# Altium integrated library Xilinx Aerospace and Defense.IntLib: 197 symbols (part 35 of 56)
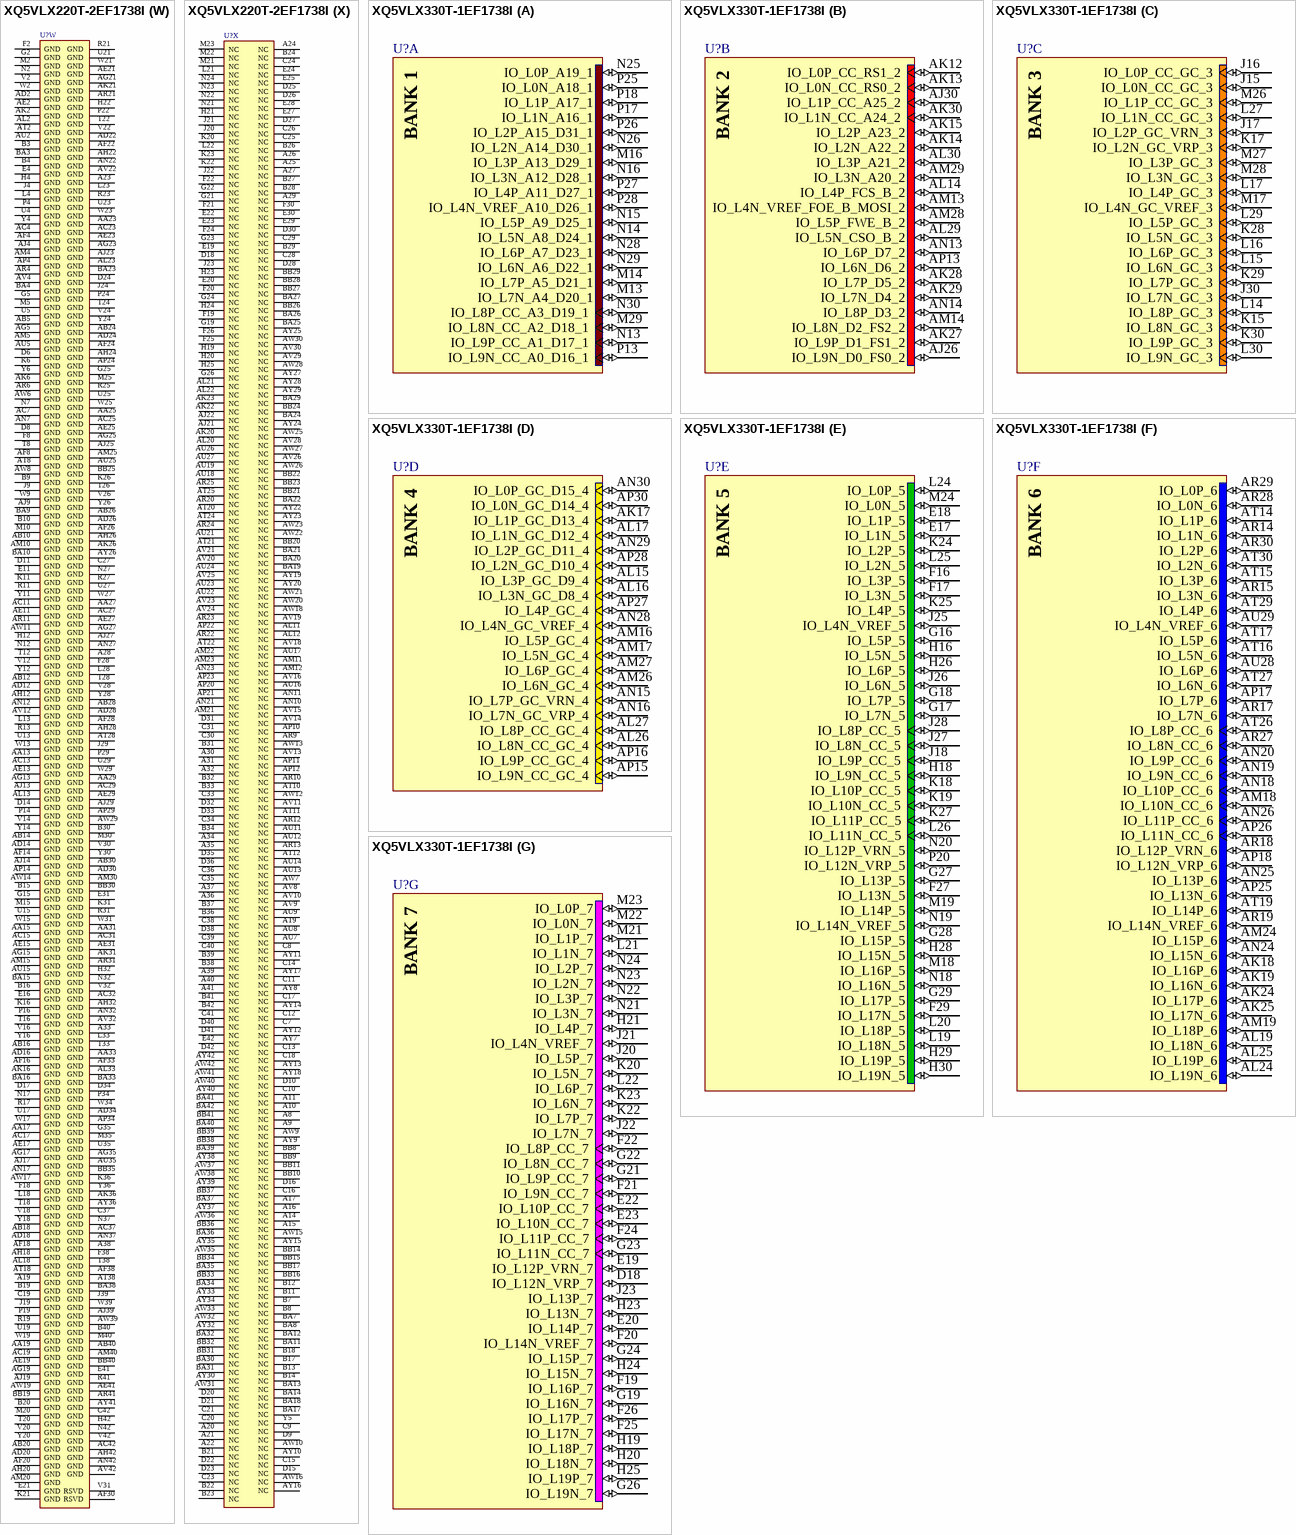
[diagram p344: symbols XQ5VLX220T-2EF1738I to XQ5VLX330T-1EF1738I]

## XQ5VLX220T-2EF1738I
designator U?
Virtex-5Q LXT Platform FPGA, 680 User I/Os, 1738-Ball EFBGA, Speed Grade 2, Industrial Grade; ComponentAvailability: Confirm availability with manufacturer.; Note: Do not connect a single-ended clock to the N-side of clock capable pins (CC & GC pins).; Published: 17-Nov-2009; LatestRevisionDate: 01-Mar-2010; LatestRevisionNote: Updated to datasheet version 1.1 Dec-2009.; DatasheetVersion: ver1.1, Dec-2009; PackageVersion: ver1.0, May-2009; PackageReference: EF1738; Publisher: Altium Limited; PackageDescription: 1738-Ball Flip Chip Ball Grid Array (EF1738); Code_JEDEC: MS-034-AAV-1 (Depopulated); ComponentLink1Description: Virtex-5Q Datasheet; ComponentLink1URL: http://www.xilinx.com/support/documentation/data_sheets/ds174.pdf; ComponentLink2Description: Pinout Specification; ComponentLink2URL: http://direct.xilinx.com/bvdocs/userguides/ug195.pdf; ComponentLink3Description: EF1738 Package Drawing; ComponentLink3URL: http://www.xilinx.com/support/documentation/package_specs/ef1738.pdf; ComponentLink4Description: Virtex-5Q Documents; ComponentLink4URL: http://www.xilinx.com/support/documentation/virtex-5q.htm; ComponentLink5Description: Xilinx.com Home; ComponentLink5URL: http://www.xilinx.com
footprint EF1738 (BGA, 1738-Leads, Body 42.5x42.5mm, Pitch 1mm)
signal-integrity model XQ5VLX220T_EF1738 (Virtex-5Q)
part A pins: M13 IO_L7N_A4_D20_1 (io), M14 IO_L7P_A5_D21_1 (io), M16 IO_L3P_A13_D29_1 (io), M29 IO_L8N_CC_A2_D18_1 (io), N13 IO_L9P_CC_A1_D17_1 (io), N14 IO_L5N_A8_D24_1 (io), N15 IO_L5P_A9_D25_1 (io), N16 IO_L3N_A12_D28_1 (io), N25 IO_L0P_A19_1 (io), N26 IO_L2N_A14_D30_1 (io), N28 IO_L6P_A7_D23_1 (io), N29 IO_L6N_A6_D22_1 (io), N30 IO_L8P_CC_A3_D19_1 (io), P13 IO_L9N_CC_A0_D16_1 (io), P17 IO_L1N_A16_1 (io), P18 IO_L1P_A17_1 (io), P25 IO_L0N_A18_1 (io), P26 IO_L2P_A15_D31_1 (io), P27 IO_L4P_A11_D27_1 (io), P28 IO_L4N_VREF_A10_D26_1 (io)
part B pins: AJ26 IO_L9N_D0_FS0_2 (io), AJ30 IO_L1P_CC_A25_2 (io), AK12 IO_L0P_CC_RS1_2 (io), AK13 IO_L0N_CC_RS0_2 (io), AK14 IO_L2N_A22_2 (io), AK15 IO_L2P_A23_2 (io), AK27 IO_L9P_D1_FS1_2 (io), AK28 IO_L7P_D5_2 (io), AK29 IO_L7N_D4_2 (io), AK30 IO_L1N_CC_A24_2 (io), AL14 IO_L4P_FCS_B_2 (io), AL29 IO_L5N_CSO_B_2 (io), AL30 IO_L3P_A21_2 (io), AM13 IO_L4N_VREF_FOE_B_MOSI_2 (io), AM14 IO_L8N_D2_FS2_2 (io), AM28 IO_L5P_FWE_B_2 (io), AM29 IO_L3N_A20_2 (io), AN13 IO_L6P_D7_2 (io), AN14 IO_L8P_D3_2 (io), AP13 IO_L6N_D6_2 (io)
part C pins: J15 IO_L0N_CC_GC_3 (io), J16 IO_L0P_CC_GC_3 (io), J17 IO_L2P_GC_VRN_3 (io), J30 IO_L7N_GC_3 (io), K15 IO_L8N_GC_3 (io), K17 IO_L2N_GC_VRP_3 (io), K28 IO_L5N_GC_3 (io), K29 IO_L7P_GC_3 (io), K30 IO_L9P_GC_3 (io), L14 IO_L8P_GC_3 (io), L15 IO_L6N_GC_3 (io), L16 IO_L6P_GC_3 (io), L17 IO_L4P_GC_3 (io), L27 IO_L1N_CC_GC_3 (io), L29 IO_L5P_GC_3 (io), L30 IO_L9N_GC_3 (io), M17 IO_L4N_GC_VREF_3 (io), M26 IO_L1P_CC_GC_3 (io), M27 IO_L3P_GC_3 (io), M28 IO_L3N_GC_3 (io)
part D pins: AK17 IO_L1P_GC_D13_4 (io), AL15 IO_L3P_GC_D9_4 (io), AL16 IO_L3N_GC_D8_4 (io), AL17 IO_L1N_GC_D12_4 (io), AL26 IO_L8N_CC_GC_4 (io), AL27 IO_L8P_CC_GC_4 (io), AM16 IO_L5P_GC_4 (io), AM17 IO_L5N_GC_4 (io), AM26 IO_L6N_GC_4 (io), AM27 IO_L6P_GC_4 (io), AN15 IO_L7P_GC_VRN_4 (io), AN16 IO_L7N_GC_VRP_4 (io), AN28 IO_L4N_GC_VREF_4 (io), AN29 IO_L2P_GC_D11_4 (io), AN30 IO_L0P_GC_D15_4 (io), AP15 IO_L9N_CC_GC_4 (io), AP16 IO_L9P_CC_GC_4 (io), AP27 IO_L4P_GC_4 (io), AP28 IO_L2N_GC_D10_4 (io), AP30 IO_L0N_GC_D14_4 (io)
part E pins: E17 IO_L1N_5 (io), E18 IO_L1P_5 (io), F16 IO_L3P_5 (io), F17 IO_L3N_5 (io), F27 IO_L13N_5 (io), F29 IO_L17N_5 (io), G16 IO_L5P_5 (io), G17 IO_L7N_5 (io), G18 IO_L7P_5 (io), G27 IO_L13P_5 (io), G28 IO_L15P_5 (io), G29 IO_L17P_5 (io), H16 IO_L5N_5 (io), H18 IO_L9N_CC_5 (io), H26 IO_L6P_5 (io), H28 IO_L15N_5 (io), H29 IO_L19P_5 (io), H30 IO_L19N_5 (io), J18 IO_L9P_CC_5 (io), J25 IO_L4N_VREF_5 (io), J26 IO_L6N_5 (io), J27 IO_L8N_CC_5 (io), J28 IO_L8P_CC_5 (io), K18 IO_L10P_CC_5 (io), K19 IO_L10N_CC_5 (io), K24 IO_L2P_5 (io), K25 IO_L4P_5 (io), K27 IO_L11P_CC_5 (io), L19 IO_L18N_5 (io), L20 IO_L18P_5 (io), L24 IO_L0P_5 (io), L25 IO_L2N_5 (io), L26 IO_L11N_CC_5 (io), M18 IO_L16P_5 (io), M19 IO_L14P_5 (io), M24 IO_L0N_5 (io), N18 IO_L16N_5 (io), N19 IO_L14N_VREF_5 (io), N20 IO_L12P_VRN_5 (io), P20 IO_L12N_VRP_5 (io)
part F pins: AK18 IO_L16P_6 (io), AK19 IO_L16N_6 (io), AK24 IO_L17P_6 (io), AK25 IO_L17N_6 (io), AL19 IO_L18N_6 (io), AL24 IO_L19N_6 (io), AL25 IO_L19P_6 (io), AM18 IO_L10N_CC_6 (io), AM19 IO_L18P_6 (io), AM24 IO_L15P_6 (io), AN18 IO_L10P_CC_6 (io), AN19 IO_L9N_CC_6 (io), AN20 IO_L9P_CC_6 (io), AN24 IO_L15N_6 (io), AN25 IO_L13P_6 (io), AN26 IO_L11P_CC_6 (io), AP17 IO_L7P_6 (io), AP18 IO_L12N_VRP_6 (io), AP25 IO_L13N_6 (io), AP26 IO_L11N_CC_6 (io), AR14 IO_L1N_6 (io), AR15 IO_L3N_6 (io), AR17 IO_L7N_6 (io), AR18 IO_L12P_VRN_6 (io), AR19 IO_L14N_VREF_6 (io), AR27 IO_L8N_CC_6 (io), AR28 IO_L0N_6 (io), AR29 IO_L0P_6 (io), AR30 IO_L2P_6 (io), AT14 IO_L1P_6 (io), AT15 IO_L3P_6 (io), AT16 IO_L5N_6 (io), AT17 IO_L5P_6 (io), AT19 IO_L14P_6 (io), AT26 IO_L8P_CC_6 (io), AT27 IO_L6N_6 (io), AT29 IO_L4P_6 (io), AT30 IO_L2N_6 (io), AU28 IO_L6P_6 (io), AU29 IO_L4N_VREF_6 (io)
part G pins: AA37 IO_L11N_CC_SM14N_11 (io), AA39 IO_L9N_CC_11 (io), AA40 IO_L9P_CC_11 (io), AA41 IO_L19N_SM9N_11 (io), AA42 IO_L19P_SM9P_11 (io), F41 IO_L1P_11 (io), F42 IO_L0P_11 (io), G41 IO_L1N_11 (io), G42 IO_L0N_11 (io), H41 IO_L2P_11 (io), J41 IO_L2N_11 (io), J42 IO_L3P_11 (io), K42 IO_L3N_11 (io), L40 IO_L4P_11 (io), L41 IO_L4N_VREF_11 (io), L42 IO_L5P_11 (io), M41 IO_L5N_11 (io), M42 IO_L6P_11 (io), N40 IO_L7P_11 (io), N41 IO_L6N_11 (io), P40 IO_L7N_11 (io), P41 IO_L13P_11 (io), P42 IO_L12N_VRP_11 (io), R40 IO_L13N_11 (io), R42 IO_L12P_VRN_11 (io), T40 IO_L14P_11 (io), T41 IO_L14N_VREF_11 (io), T42 IO_L15P_SM13P_11 (io), U41 IO_L15N_SM13N_11 (io), U42 IO_L16P_SM12P_11 (io), V40 IO_L17P_SM11P_11 (io), V41 IO_L16N_SM12N_11 (io), W40 IO_L8P_CC_11 (io), W41 IO_L17N_SM11N_11 (io), W42 IO_L18P_SM10P_11 (io), Y37 IO_L11P_CC_SM14P_11 (io), Y38 IO_L10N_CC_SM15N_11 (io), Y39 IO_L10P_CC_SM15P_11 (io), Y40 IO_L8N_CC_11 (io), Y42 IO_L18N_SM10N_11 (io)
part H pins: AA6 IO_L0N_12 (io), AA7 IO_L0P_12 (io), AA9 IO_L17P_12 (io), AA10 IO_L16N_12 (io), AA11 IO_L16P_12 (io), G6 IO_L1P_12 (io), H5 IO_L1N_12 (io), H6 IO_L3P_12 (io), J5 IO_L3N_12 (io), J6 IO_L5P_12 (io), K4 IO_L7P_12 (io), K5 IO_L5N_12 (io), L5 IO_L7N_12 (io), L6 IO_L9P_CC_12 (io), M6 IO_L9N_CC_12 (io), N5 IO_L10P_CC_12 (io), N6 IO_L10N_CC_12 (io), P5 IO_L12P_VRN_12 (io), P6 IO_L12N_VRP_12 (io), R4 IO_L14P_12 (io), R5 IO_L14N_VREF_12 (io), T4 IO_L15N_12 (io), T5 IO_L15P_12 (io), T6 IO_L13N_12 (io), T7 IO_L13P_12 (io), U6 IO_L11N_CC_12 (io), U7 IO_L11P_CC_12 (io), V5 IO_L8P_CC_12 (io), V6 IO_L8N_CC_12 (io), V8 IO_L6N_12 (io), W5 IO_L2P_12 (io), W6 IO_L2N_12 (io), W7 IO_L4N_VREF_12 (io), W8 IO_L6P_12 (io), W10 IO_L18N_12 (io), W11 IO_L18P_12 (io), Y7 IO_L4P_12 (io), Y8 IO_L19N_12 (io), Y9 IO_L19P_12 (io), Y10 IO_L17N_12 (io)
part I pins: AB37 IO_L8P_CC_SM1P_13 (io), AB38 IO_L8N_CC_SM1N_13 (io), AB39 IO_L9P_CC_SM0P_13 (io), AB41 IO_L0P_SM8P_13 (io), AB42 IO_L0N_SM8N_13 (io), AC38 IO_L9N_CC_SM0N_13 (io), AC39 IO_L11N_CC_13 (io), AC40 IO_L11P_CC_13 (io), AC41 IO_L1P_SM7P_13 (io), AD40 IO_L10N_CC_13 (io), AD41 IO_L2N_SM6N_13 (io), AD42 IO_L1N_SM7N_13 (io), AE40 IO_L10P_CC_13 (io), AE42 IO_L2P_SM6P_13 (io), AF40 IO_L4P_13 (io), AF41 IO_L3P_SM5P_13 (io), AF42 IO_L3N_SM5N_13 (io), AG41 IO_L4N_VREF_13 (io), AG42 IO_L5P_SM4P_13 (io), AH40 IO_L7P_SM2P_13 (io), AH41 IO_L5N_SM4N_13 (io), AJ40 IO_L7N_SM2N_13 (io), AJ41 IO_L6N_SM3N_13 (io), AJ42 IO_L6P_SM3P_13 (io), AK40 IO_L12P_VRN_13 (io), AK42 IO_L13N_13 (io), AL40 IO_L12N_VRP_13 (io), AL41 IO_L13P_13 (io), AL42 IO_L14P_13 (io), AM41 IO_L15P_13 (io), AM42 IO_L14N_VREF_13 (io), AN41 IO_L15N_13 (io), AP41 IO_L16N_13 (io), AP42 IO_L16P_13 (io), AR42 IO_L17P_13 (io), AT41 IO_L18P_13 (io), AT42 IO_L17N_13 (io), AU41 IO_L18N_13 (io), AU42 IO_L19P_13 (io), AV41 IO_L19N_13 (io)
part J pins: AA34 IO_L17P_15 (io), AA35 IO_L16P_15 (io), AA36 IO_L16N_15 (io), E39 IO_L3P_15 (io), E40 IO_L3N_15 (io), F39 IO_L2P_15 (io), F40 IO_L2N_15 (io), G38 IO_L1P_15 (io), G39 IO_L1N_15 (io), H38 IO_L0P_15 (io), H39 IO_L0N_15 (io), H40 IO_L10P_CC_15 (io), J38 IO_L9N_CC_15 (io), J40 IO_L10N_CC_15 (io), K38 IO_L9P_CC_15 (io), K39 IO_L11N_CC_15 (io), K40 IO_L11P_CC_15 (io), L39 IO_L8N_CC_15 (io), M38 IO_L8P_CC_15 (io), M39 IO_L7N_15 (io), N38 IO_L6N_15 (io), N39 IO_L7P_15 (io), P37 IO_L5N_15 (io), P38 IO_L6P_15 (io), R37 IO_L5P_15 (io), R38 IO_L4N_VREF_15 (io), R39 IO_L4P_15 (io), T37 IO_L13P_15 (io), T39 IO_L14P_15 (io), U37 IO_L12N_VRP_15 (io), U38 IO_L13N_15 (io), U39 IO_L14N_VREF_15 (io), V38 IO_L12P_VRN_15 (io), V39 IO_L15P_15 (io), W35 IO_L18N_15 (io), W36 IO_L19P_15 (io), W37 IO_L19N_15 (io), W38 IO_L15N_15 (io), Y34 IO_L17N_15 (io), Y35 IO_L18P_15 (io)
part K pins: AB34 IO_L0P_17 (io), AB36 IO_L1N_17 (io), AC34 IO_L0N_17 (io), AC35 IO_L1P_17 (io), AC36 IO_L2P_17 (io), AD35 IO_L2N_17 (io), AD36 IO_L3P_17 (io), AD37 IO_L3N_17 (io), AD38 IO_L4N_VREF_17 (io), AE37 IO_L4P_17 (io), AE38 IO_L5N_17 (io), AE39 IO_L5P_17 (io), AF37 IO_L7N_17 (io), AF39 IO_L6P_17 (io), AG37 IO_L7P_17 (io), AG38 IO_L6N_17 (io), AG39 IO_L12P_VRN_17 (io), AH38 IO_L15N_17 (io), AH39 IO_L12N_VRP_17 (io), AJ37 IO_L15P_17 (io), AJ38 IO_L13P_17 (io), AK37 IO_L14N_VREF_17 (io), AK38 IO_L14P_17 (io), AK39 IO_L13N_17 (io), AL37 IO_L19N_17 (io), AL39 IO_L16P_17 (io), AM37 IO_L19P_17 (io), AM38 IO_L18N_17 (io), AM39 IO_L16N_17 (io), AN38 IO_L18P_17 (io), AN39 IO_L17P_17 (io), AN40 IO_L8P_CC_17 (io), AP38 IO_L17N_17 (io), AP40 IO_L8N_CC_17 (io), AR39 IO_L11N_CC_17 (io), AR40 IO_L9P_CC_17 (io), AT39 IO_L11P_CC_17 (io), AT40 IO_L9N_CC_17 (io), AU39 IO_L10N_CC_17 (io), AV40 IO_L10P_CC_17 (io)
part L pins: AB6 IO_L9N_CC_18 (io), AB7 IO_L9P_CC_18 (io), AB8 IO_L3N_18 (io), AB9 IO_L3P_18 (io), AB11 IO_L1P_18 (io), AC5 IO_L10P_CC_18 (io), AC6 IO_L10N_CC_18 (io), AC8 IO_L5P_18 (io), AC9 IO_L5N_18 (io), AC10 IO_L1N_18 (io), AD5 IO_L14N_VREF_18 (io), AD6 IO_L12P_VRN_18 (io), AD7 IO_L12N_VRP_18 (io), AD8 IO_L16P_18 (io), AD10 IO_L7P_18 (io), AD11 IO_L7N_18 (io), AE5 IO_L14P_18 (io), AE7 IO_L15N_18 (io), AE8 IO_L16N_18 (io), AE9 IO_L18P_18 (io), AE10 IO_L18N_18 (io), AF5 IO_L11P_CC_18 (io), AF6 IO_L11N_CC_18 (io), AF7 IO_L15P_18 (io), AF9 IO_L17P_18 (io), AF10 IO_L17N_18 (io), AF11 IO_L19P_18 (io), AF12 IO_L19N_18 (io), AG4 IO_L8P_CC_18 (io), AG6 IO_L13P_18 (io), AG7 IO_L13N_18 (io), AH4 IO_L8N_CC_18 (io), AH5 IO_L6N_18 (io), AH6 IO_L6P_18 (io), AJ5 IO_L4N_VREF_18 (io), AJ6 IO_L4P_18 (io), AJ7 IO_L0P_18 (io), AK5 IO_L2N_18 (io), AK7 IO_L0N_18 (io), AL5 IO_L2P_18 (io)
part M pins: AA32 IO_L19N_19 (io), D37 IO_L15N_19 (io), E37 IO_L14N_VREF_19 (io), E38 IO_L15P_19 (io), F36 IO_L13P_19 (io), F37 IO_L14P_19 (io), G36 IO_L13N_19 (io), G37 IO_L12N_VRP_19 (io), H35 IO_L6P_19 (io), H36 IO_L12P_VRN_19 (io), J35 IO_L5N_19 (io), J36 IO_L6N_19 (io), J37 IO_L7N_19 (io), K35 IO_L5P_19 (io), K37 IO_L7P_19 (io), L35 IO_L4N_VREF_19 (io), L36 IO_L4P_19 (io), L37 IO_L2P_19 (io), M36 IO_L1N_19 (io), M37 IO_L2N_19 (io), N35 IO_L1P_19 (io), N36 IO_L3P_19 (io), P35 IO_L0N_19 (io), P36 IO_L3N_19 (io), R34 IO_L0P_19 (io), R35 IO_L10P_CC_19 (io), T34 IO_L9P_CC_19 (io), T35 IO_L8N_CC_19 (io), T36 IO_L10N_CC_19 (io), U33 IO_L9N_CC_19 (io), U34 IO_L8P_CC_19 (io), U36 IO_L11P_CC_19 (io), V33 IO_L17P_19 (io), V34 IO_L16N_19 (io), V35 IO_L16P_19 (io), V36 IO_L11N_CC_19 (io), W32 IO_L18N_19 (io), W33 IO_L17N_19 (io), Y32 IO_L19P_19 (io), Y33 IO_L18P_19 (io)
part N pins: D7 IO_L3P_20 (io), E5 IO_L7P_20 (io), E7 IO_L3N_20 (io), E8 IO_L1N_20 (io), E9 IO_L1P_20 (io), F5 IO_L7N_20 (io), F6 IO_L5N_20 (io), F7 IO_L5P_20 (io), F9 IO_L9P_CC_20 (io), G7 IO_L10P_CC_20 (io), G8 IO_L10N_CC_20 (io), G9 IO_L9N_CC_20 (io), H8 IO_L12P_VRN_20 (io), H9 IO_L12N_VRP_20 (io), J7 IO_L14N_VREF_20 (io), J8 IO_L14P_20 (io), K7 IO_L17P_20 (io), K8 IO_L16P_20 (io), K9 IO_L16N_20 (io), L7 IO_L17N_20 (io), L9 IO_L19N_20 (io), M7 IO_L18P_20 (io), M8 IO_L18N_20 (io), M9 IO_L19P_20 (io), N8 IO_L0N_20 (io), N9 IO_L0P_20 (io), P7 IO_L2P_20 (io), P8 IO_L2N_20 (io), R7 IO_L4P_20 (io), R8 IO_L4N_VREF_20 (io), R9 IO_L6P_20 (io), T9 IO_L6N_20 (io), T10 IO_L13P_20 (io), T11 IO_L13N_20 (io), U8 IO_L11P_CC_20 (io), U9 IO_L11N_CC_20 (io), U11 IO_L15P_20 (io), V9 IO_L8P_CC_20 (io), V10 IO_L8N_CC_20 (io), V11 IO_L15N_20 (io)
part O pins: AB32 IO_L0N_21 (io), AB33 IO_L0P_21 (io), AC33 IO_L1P_21 (io), AD32 IO_L1N_21 (io), AD33 IO_L2P_21 (io), AE32 IO_L2N_21 (io), AE33 IO_L3P_21 (io), AE34 IO_L3N_21 (io), AE35 IO_L8P_CC_21 (io), AF34 IO_L8N_CC_21 (io), AF35 IO_L9P_CC_21 (io), AF36 IO_L9N_CC_21 (io), AG34 IO_L10N_CC_21 (io), AG36 IO_L11N_CC_21 (io), AH34 IO_L10P_CC_21 (io), AH35 IO_L11P_CC_21 (io), AH36 IO_L16P_21 (io), AJ35 IO_L17P_21 (io), AJ36 IO_L16N_21 (io), AK34 IO_L19N_21 (io), AK35 IO_L17N_21 (io), AL34 IO_L19P_21 (io), AL35 IO_L18N_21 (io), AL36 IO_L18P_21 (io), AM34 IO_L15N_21 (io), AM36 IO_L14P_21 (io), AN34 IO_L15P_21 (io), AN35 IO_L14N_VREF_21 (io), AN36 IO_L13N_21 (io), AP35 IO_L13P_21 (io), AP36 IO_L12N_VRP_21 (io), AP37 IO_L12P_VRN_21 (io), AR37 IO_L7P_21 (io), AR38 IO_L6N_21 (io), AT36 IO_L7N_21 (io), AT37 IO_L6P_21 (io), AU37 IO_L5N_21 (io), AU38 IO_L5P_21 (io), AV38 IO_L4N_VREF_21 (io), AV39 IO_L4P_21 (io)
part P pins: E32 IO_L11P_CC_23 (io), E33 IO_L11N_CC_23 (io), E34 IO_L9P_CC_23 (io), E35 IO_L8N_CC_23 (io), F31 IO_L10P_CC_23 (io), F32 IO_L10N_CC_23 (io), F34 IO_L9N_CC_23 (io), F35 IO_L8P_CC_23 (io), G31 IO_L6N_23 (io), G32 IO_L6P_23 (io), G33 IO_L5P_23 (io), G34 IO_L4N_VREF_23 (io), H31 IO_L7P_23 (io), H33 IO_L5N_23 (io), H34 IO_L4P_23 (io), J31 IO_L7N_23 (io), J32 IO_L14N_VREF_23 (io), J33 IO_L13N_23 (io), K32 IO_L14P_23 (io), K33 IO_L13P_23 (io), K34 IO_L12N_VRP_23 (io), L31 IO_L15N_23 (io), L32 IO_L15P_23 (io), L34 IO_L12P_VRN_23 (io), M31 IO_L2N_23 (io), M32 IO_L2P_23 (io), M33 IO_L1N_23 (io), M34 IO_L1P_23 (io), N31 IO_L3P_23 (io), N33 IO_L0P_23 (io), N34 IO_L0N_23 (io), P31 IO_L3N_23 (io), P32 IO_L16N_23 (io), P33 IO_L16P_23 (io), R32 IO_L17N_23 (io), R33 IO_L17P_23 (io), T31 IO_L19N_23 (io), T32 IO_L18P_23 (io), U31 IO_L19P_23 (io), U32 IO_L18N_23 (io)
part Q pins: D12 IO_L15N_24 (io), D13 IO_L17P_24 (io), E10 IO_L3P_24 (io), E12 IO_L15P_24 (io), E13 IO_L13N_24 (io), E14 IO_L17N_24 (io), E15 IO_L19P_24 (io), F10 IO_L3N_24 (io), F11 IO_L2N_24 (io), F12 IO_L2P_24 (io), F14 IO_L13P_24 (io), F15 IO_L19N_24 (io), G11 IO_L1N_24 (io), G12 IO_L1P_24 (io), G13 IO_L11P_CC_24 (io), G14 IO_L11N_CC_24 (io), H10 IO_L7P_24 (io), H11 IO_L0N_24 (io), H13 IO_L6N_24 (io), H14 IO_L8P_CC_24 (io), H15 IO_L8N_CC_24 (io), J10 IO_L7N_24 (io), J11 IO_L5N_24 (io), J12 IO_L0P_24 (io), J13 IO_L6P_24 (io), K10 IO_L9P_CC_24 (io), K12 IO_L5P_24 (io), K13 IO_L4N_VREF_24 (io), K14 IO_L4P_24 (io), L10 IO_L9N_CC_24 (io), L11 IO_L10N_CC_24 (io), L12 IO_L10P_CC_24 (io), M11 IO_L12P_VRN_24 (io), M12 IO_L12N_VRP_24 (io), N10 IO_L16N_24 (io), N11 IO_L14P_24 (io), P10 IO_L18N_24 (io), P11 IO_L16P_24 (io), P12 IO_L14N_VREF_24 (io), R10 IO_L18P_24 (io)
part R pins: AF31 IO_L0N_25 (io), AF32 IO_L1P_25 (io), AG31 IO_L0P_25 (io), AG32 IO_L2N_25 (io), AG33 IO_L1N_25 (io), AH31 IO_L3P_25 (io), AH33 IO_L2P_25 (io), AJ31 IO_L3N_25 (io), AJ32 IO_L17P_25 (io), AJ33 IO_L16N_25 (io), AK32 IO_L17N_25 (io), AK33 IO_L16P_25 (io), AL31 IO_L19P_25 (io), AL32 IO_L18P_25 (io), AM31 IO_L19N_25 (io), AM32 IO_L18N_25 (io), AM33 IO_L15N_25 (io), AN31 IO_L12N_VRP_25 (io), AN33 IO_L15P_25 (io), AP31 IO_L12P_VRN_25 (io), AP32 IO_L13N_25 (io), AP33 IO_L14N_VREF_25 (io), AR32 IO_L13P_25 (io), AR33 IO_L14P_25 (io), AR34 IO_L7N_25 (io), AR35 IO_L7P_25 (io), AT31 IO_L11N_CC_25 (io), AT32 IO_L11P_CC_25 (io), AT34 IO_L6N_25 (io), AT35 IO_L5N_25 (io), AU31 IO_L10N_CC_25 (io), AU32 IO_L8P_CC_25 (io), AU33 IO_L8N_CC_25 (io), AU34 IO_L6P_25 (io), AU36 IO_L5P_25 (io), AV31 IO_L10P_CC_25 (io), AV33 IO_L9P_CC_25 (io), AV34 IO_L9N_CC_25 (io), AV35 IO_L4P_25 (io), AV36 IO_L4N_VREF_25 (io)
part S pins: AG8 IO_L9P_CC_26 (io), AG9 IO_L3P_26 (io), AG11 IO_L1N_26 (io), AG12 IO_L1P_26 (io), AH8 IO_L9N_CC_26 (io), AH9 IO_L3N_26 (io), AH10 IO_L5P_26 (io), AH11 IO_L5N_26 (io), AJ8 IO_L10N_CC_26 (io), AJ10 IO_L7N_26 (io), AJ11 IO_L7P_26 (io), AK8 IO_L10P_CC_26 (io), AK9 IO_L12P_VRN_26 (io), AK10 IO_L12N_VRP_26 (io), AL6 IO_L16P_26 (io), AL7 IO_L16N_26 (io), AL9 IO_L14P_26 (io), AL10 IO_L14N_VREF_26 (io), AM6 IO_L18N_26 (io), AM7 IO_L19P_26 (io), AM8 IO_L19N_26 (io), AM9 IO_L8P_CC_26 (io), AN4 IO_L17P_26 (io), AN5 IO_L17N_26 (io), AN6 IO_L18P_26 (io), AN8 IO_L11P_CC_26 (io), AN9 IO_L8N_CC_26 (io), AP5 IO_L15N_26 (io), AP6 IO_L15P_26 (io), AP7 IO_L13P_26 (io), AP8 IO_L11N_CC_26 (io), AR5 IO_L2N_26 (io), AR7 IO_L0N_26 (io), AR8 IO_L13N_26 (io), AT5 IO_L4P_26 (io), AT6 IO_L2P_26 (io), AT7 IO_L0P_26 (io), AU6 IO_L4N_VREF_26 (io), AV5 IO_L6N_26 (io), AV6 IO_L6P_26 (io)
part T pins: AA4 FLOAT, AC21 DXN_0, AC22 DXP_0, AG29 TCK_0 (in), AH14 CCLK_0 (io), AH15 TMS_0 (in), AH16 TDI_0 (in), AH29 M0_0 (in), AH30 M1_0 (in), AJ15 TDO_0 (out), AJ16 D_OUT_BUSY_0 (out), AJ28 M2_0 (in), P15 HSWAPEN_0 (in), R14 DONE_0 (io), R15 D_IN_0 (in), R29 PROGRAM_B_0 (in), R30 RDWR_B_0 (in), T14 INIT_B_0 (io), T30 CS_B_0 (in)
part U pins: A2 MGTRXP1_124 (in), A3 MGTRXN1_124 (in), A4 MGTRXN0_124 (in), A5 MGTRXP0_124 (in), AA2 MGTTXP1_112 (out), AB2 MGTTXP0_114 (out), AB4 MGTRREF_112 (in), AC1 MGTRXP0_114 (in), AC2 MGTTXN0_114 (out), AD1 MGTRXN0_114 (in), AD3 MGTREFCLKN_114 (in), AD4 MGTREFCLKP_114 (in), AE1 MGTRXN1_114 (in), AF1 MGTRXP1_114 (in), AF2 MGTTXN1_114 (out), AG2 MGTTXP1_114 (out), AH2 MGTTXP0_118 (out), AJ1 MGTRXP0_118 (in), AJ2 MGTTXN0_118 (out), AK1 MGTRXN0_118 (in), AK3 MGTREFCLKN_118 (in), AK4 MGTREFCLKP_118 (in), AL1 MGTRXN1_118 (in), AM1 MGTRXP1_118 (in), AM2 MGTTXN1_118 (out), AN2 MGTTXP1_118 (out), AP2 MGTTXP0_122 (out), AR1 MGTRXP0_122 (in), AR2 MGTTXN0_122 (out), AT1 MGTRXN0_122 (in), AT3 MGTREFCLKN_122 (in), AT4 MGTREFCLKP_122 (in), AU1 MGTRXN1_122 (in), AV1 MGTRXP1_122 (in), AV2 MGTTXN1_122 (out), AW2 MGTTXP1_122 (out), AW4 MGTREFCLKP_126 (in), AY4 MGTREFCLKN_126 (in), B1 MGTTXP1_124 (out), B2 MGTTXN1_124 (out), B5 MGTTXN0_124 (out), B6 MGTTXP0_124 (out), BA1 MGTTXP0_126 (out), BA2 MGTTXN0_126 (out), BA5 MGTTXN1_126 (out), BA6 MGTTXP1_126 (out), BB2 MGTRXP0_126 (in), BB3 MGTRXN0_126 (in), BB4 MGTRXN1_126 (in), BB5 MGTRXP1_126 (in), C3 MGTREFCLKN_124 (in), C4 MGTREFCLKP_124 (in), D2 MGTTXP0_120 (out), E1 MGTRXP0_120 (in), E2 MGTTXN0_120 (out), F1 MGTRXN0_120 (in), F3 MGTREFCLKN_120 (in), F4 MGTREFCLKP_120 (in), G1 MGTRXN1_120 (in), H1 MGTRXP1_120 (in), H2 MGTTXN1_120 (out), J2 MGTTXP1_120 (out), K2 MGTTXP0_116 (out), L1 MGTRXP0_116 (in), L2 MGTTXN0_116 (out), M1 MGTRXN0_116 (in), M3 MGTREFCLKN_116 (in), M4 MGTREFCLKP_116 (in), N1 MGTRXN1_116 (in), P1 MGTRXP1_116 (in), P2 MGTTXN1_116 (out), R2 MGTTXP1_116 (out), T2 MGTTXP0_112 (out), U1 MGTRXP0_112 (in), U2 MGTTXN0_112 (out), V1 MGTRXN0_112 (in), V3 MGTREFCLKN_112 (in), V4 MGTREFCLKP_112 (in), W1 MGTRXN1_112 (in), Y1 MGTRXP1_112 (in), Y2 MGTTXN1_112 (out)
part V pins: AA3 MGTAVTTTX_112 (power), AA5 MGTAVTTRXC (power), AA8 VCCO_12 (power), AA12 VCCAUX (power), AA14 VCCINT (power), AA16 VCCINT (power), AA18 VCCINT (power), AA20 VCCINT (power), AA21 VREFN_0 (power), AA22 VP_0 (power), AA24 VCCINT (power), AA26 VCCINT (power), AA28 VCCINT (power), AA30 VCCAUX (power), AA38 VCCO_11 (power), AB3 MGTAVTTTX_114 (power), AB13 VCCINT (power), AB15 VCCINT (power), AB17 VCCINT (power), AB19 VCCINT (power), AB21 VN_0 (power), AB22 VREFP_0 (power), AB23 VCCINT (power), AB25 VCCINT (power), AB27 VCCINT (power), AB29 VCCINT (power), AB31 VCCAUX (power), AB35 VCCO_13 (power), AC3 MGTAVTTRX_114 (power), AC12 VCCAUX (power), AC14 VCCINT (power), AC16 VCCINT (power), AC18 VCCINT (power), AC20 VCCINT (power), AC24 VCCINT (power), AC26 VCCINT (power), AC28 VCCINT (power), AC30 VCCAUX (power), AD9 VCCO_18 (power), AD13 VCCINT (power), AD15 VCCINT (power), AD17 VCCINT (power), AD19 VCCINT (power), AD21 VCCINT (power), AD23 VCCINT (power), AD25 VCCINT (power), AD27 VCCINT (power), AD29 VCCINT (power), AD31 VCCAUX (power), AD39 VCCO_13 (power), AE3 MGTAVCC_114 (power), AE4 MGTAVCC_114 (power), AE6 VCCO_18 (power), AE12 VCCAUX (power), AE14 VCCINT (power), AE16 VCCINT (power), AE18 VCCINT (power), AE20 VCCINT (power), AE22 VCCINT (power), AE24 VCCINT (power), AE26 VCCINT (power), AE28 VCCINT (power), AE30 VCCAUX (power), AE36 VCCO_13 (power), AF3 MGTAVCCPLL_114 (power), AF13 VCCAUX (power), AF15 VCCINT (power), AF17 VCCINT (power), AF19 VCCINT (power), AF21 VCCINT (power), AF23 VCCINT (power), AF25 VCCINT (power), AF27 VCCINT (power), AF29 VCCAUX (power), AG3 MGTAVTTTX_114 (power), AG10 VCCO_18 (power), AG14 VCCINT (power), AG16 VCCINT (power), AG18 VCCINT (power), AG20 VCCINT (power), AG22 VCCINT (power), AG24 VCCINT (power), AG26 VCCINT (power), AG28 VCCINT (power), AG30 VCCO_0 (power), AG40 VCCO_17 (power), AH3 MGTAVTTTX_118 (power), AH7 VCCO_26 (power), AH13 VCCAUX (power), AH17 VCCINT (power), AH19 VCCINT (power), AH21 VCCINT (power), AH23 VCCINT (power), AH25 VCCINT (power), AH27 VCCINT (power), AH37 VCCO_17 (power), AJ3 MGTAVTTRX_118 (power), AJ12 VCCAUX (power), AJ18 VCCINT (power), AJ20 VCCINT (power), AJ24 VCCINT (power), AJ34 VCCO_21 (power), AK11 VCCO_26 (power), AK41 VCCO_17 (power), AL3 MGTAVCC_118 (power), AL4 MGTAVCC_118 (power), AL8 VCCO_26 (power), AL28 VCCO_0 (power), AL38 VCCO_21 (power), AM3 MGTAVCCPLL_118 (power), AM35 VCCO_21 (power), AN3 MGTAVTTTX_118 (power), AP3 MGTAVTTTX_122 (power), AP9 VCCO_34 (power), AP19 VCCO_8 (power), AP39 VCCO_25 (power), AR3 MGTAVTTRX_122 (power), AR16 VCCO_4 (power), AR26 VCCO_2 (power), AR36 VCCO_25 (power), AT13 VCCO_4 (power), AT23 VCCO_6 (power), AT33 VCCO_29 (power), AU3 MGTAVCC_122 (power), AU4 MGTAVCC_122 (power), AU10 VCCO_34 (power), AU20 VCCO_8 (power), AU30 VCCO_33 (power), AU40 VCCO_25 (power), AV3 MGTAVCCPLL_122 (power), AV7 VCCO_34 (power), AV17 VCCO_8 (power), AV27 VCCO_2 (power), AV37 VCCO_29 (power), AW3 MGTAVTTTX_122 (power), AW5 MGTAVCC_126 (power), AW24 VCCO_6 (power), AW34 VCCO_29 (power), AY1 MGTAVTTTX_126 (power), AY2 MGTAVTTRX_126 (power), AY3 MGTAVCC_126 (power), AY5 MGTAVCCPLL_126 (power), AY6 MGTAVTTTX_126 (power), AY21 VCCO_6 (power), AY31 VCCO_33 (power), B25 VCCO_5 (power), B35 VCCO_27 (power), BA28 VCCO_33 (power), C1 MGTAVTTTX_124 (power), C2 MGTAVCCPLL_124 (power), C5 MGTAVTTRX_124 (power), C6 MGTAVTTTX_124 (power), C22 VCCO_5 (power), C32 VCCO_31 (power), D3 MGTAVTTTX_120 (power), D4 MGTAVCC_124 (power), D5 MGTAVCC_124 (power), D19 VCCO_7 (power), D29 VCCO_31 (power), D39 VCCO_23 (power), E3 MGTAVTTRX_120 (power), E6 VCCO_24 (power), E26 VCCO_3 (power), E36 VCCO_23 (power), F13 VCCO_1 (power), F23 VCCO_5 (power), F33 VCCO_27 (power), G3 MGTAVCC_120 (power), G4 MGTAVCC_120 (power), G10 VCCO_24 (power), G20 VCCO_7 (power), G30 VCCO_31 (power), G40 VCCO_19 (power), H3 MGTAVCCPLL_120 (power), H7 VCCO_24 (power), H17 VCCO_7 (power), H27 VCCO_3 (power), H37 VCCO_23 (power), J3 MGTAVTTTX_120 (power), J14 VCCO_1 (power), J34 VCCO_27 (power), K3 MGTAVTTTX_116 (power), K41 VCCO_19 (power), L3 MGTAVTTRX_116 (power), L8 VCCO_20 (power), L38 VCCO_19 (power), N3 MGTAVCC_116 (power), N4 MGTAVCC_116 (power), P3 MGTAVCCPLL_116 (power), P9 VCCO_20 (power), P21 VCCINT (power), P23 VCCINT (power), P30 VBATT_0 (power), P39 VCCO_15 (power), R3 MGTAVTTTX_116 (power), R6 VCCO_20 (power), R12 VCCAUX (power), R16 VCCINT (power), R18 VCCINT (power), R20 VCCINT (power), R22 VCCINT (power), R24 VCCINT (power), R26 VCCINT (power), R28 VCCINT (power), R36 VCCO_15 (power), T3 MGTAVTTTX_112 (power), T13 VCCAUX (power), T15 VCCINT (power), T17 VCCINT (power), T19 VCCINT (power), T21 VCCINT (power), T23 VCCINT (power), T25 VCCINT (power), T27 VCCINT (power), T29 VCCAUX (power), U3 MGTAVTTRX_112 (power), U10 VCCO_12 (power), U12 VCCAUX (power), U14 VCCINT (power), U16 VCCINT (power), U18 VCCINT (power), U20 VCCINT (power), U22 VCCINT (power), U24 VCCINT (power), U26 VCCINT (power), U28 VCCINT (power), U30 VCCAUX (power), U40 VCCO_15 (power), V7 VCCO_12 (power), V13 VCCINT (power), V15 VCCINT (power), V17 VCCINT (power), V19 VCCINT (power), V21 VCCINT (power), V23 VCCINT (power), V25 VCCINT (power), V27 VCCINT (power), V29 VCCINT (power), V37 VCCO_11 (power), W3 MGTAVCC_112 (power), W4 MGTAVCC_112 (power), W12 VCCAUX (power), W14 VCCINT (power), W16 VCCINT (power), W18 VCCINT (power), W20 VCCINT (power), W22 VCCINT (power), W24 VCCINT (power), W26 VCCINT (power), W28 VCCINT (power), W30 VCCAUX (power), Y3 MGTAVCCPLL_112 (power), Y13 VCCINT (power), Y15 VCCINT (power), Y17 VCCINT (power), Y19 VCCINT (power), Y21 AVSS_0 (power), Y22 AVDD_0 (power), Y23 VCCINT (power), Y25 VCCINT (power), Y27 VCCINT (power), Y29 VCCINT (power), Y31 VCCAUX (power), Y41 VCCO_11 (power)
part W pins: A19 GND (power), A23 GND (power), A28 GND (power), A33 GND (power), A38 GND (power), AA13 GND (power), AA15 GND (power), AA17 GND (power), AA19 GND (power), AA23 GND (power), AA25 GND (power), AA27 GND (power), AA29 GND (power), AA31 GND (power), AA33 GND (power), AB5 GND (power), AB10 GND (power), AB12 GND (power), AB14 GND (power), AB16 GND (power), AB18 GND (power), AB20 GND (power), AB24 GND (power), AB26 GND (power), AB28 GND (power), AB30 GND (power), AB40 GND (power), AC4 GND (power), AC7 GND (power), AC11 GND (power), AC13 GND (power), AC15 GND (power), AC17 GND (power), AC19 GND (power), AC23 GND (power), AC25 GND (power), AC27 GND (power), AC29 GND (power), AC31 GND (power), AC32 GND (power), AC37 GND (power), AC42 GND (power), AD2 GND (power), AD12 GND (power), AD14 GND (power), AD16 GND (power), AD18 GND (power), AD20 GND (power), AD22 GND (power), AD24 GND (power), AD26 GND (power), AD28 GND (power), AD30 GND (power), AD34 GND (power), AE2 GND (power), AE11 GND (power), AE13 GND (power), AE15 GND (power), AE17 GND (power), AE19 GND (power), AE21 GND (power), AE23 GND (power), AE25 GND (power), AE27 GND (power), AE29 GND (power), AE31 GND (power), AE41 GND (power), AF4 GND (power), AF8 GND (power), AF14 GND (power), AF16 GND (power), AF18 GND (power), AF20 GND (power), AF22 GND (power), AF24 GND (power), AF26 GND (power), AF28 GND (power), AF30 RSVD, AF33 GND (power), AF38 GND (power), AG5 GND (power), AG13 GND (power), AG15 GND (power), AG17 GND (power), AG19 GND (power), AG21 GND (power), AG23 GND (power), AG25 GND (power), AG27 GND (power), AG35 GND (power), AH12 GND (power), AH18 GND (power), AH20 GND (power), AH22 GND (power), AH24 GND (power), AH26 GND (power), AH28 GND (power), AH32 GND (power), AH42 GND (power), AJ4 GND (power), AJ9 GND (power), AJ13 GND (power), AJ14 GND (power), AJ17 GND (power), AJ19 GND (power), AJ23 GND (power), AJ25 GND (power), AJ27 GND (power), AJ29 GND (power), AJ39 GND (power), AK2 GND (power), AK6 GND (power), AK16 GND (power), AK21 GND (power), AK26 GND (power), AK31 GND (power), AK36 GND (power), AL2 GND (power), AL13 GND (power), AL18 GND (power), AL23 GND (power), AL33 GND (power), AM4 GND (power), AM5 GND (power), AM10 GND (power), AM15 GND (power), AM20 GND (power), AM25 GND (power), AM30 GND (power), AM40 GND (power), AN7 GND (power), AN12 GND (power), AN17 GND (power), AN22 GND (power), AN27 GND (power), AN32 GND (power), AN37 GND (power), AN42 GND (power), AP4 GND (power), AP14 GND (power), AP24 GND (power), AP29 GND (power), AP34 GND (power), AR4 GND (power), AR6 GND (power), AR11 GND (power), AR21 GND (power), AR31 GND (power), AR41 GND (power), AT2 GND (power), AT8 GND (power), AT18 GND (power), AT28 GND (power), AT38 GND (power), AU2 GND (power), AU5 GND (power), AU15 GND (power), AU25 GND (power), AU35 GND (power), AV4 GND (power), AV12 GND (power), AV22 GND (power), AV32 GND (power), AV42 GND (power), AW6 GND (power), AW8 GND (power), AW11 GND (power), AW14 GND (power), AW17 GND (power), AW19 GND (power), AW29 GND (power), AW39 GND (power), AY26 GND (power), AY36 GND (power), AY41 GND (power), B3 GND (power), B4 GND (power), B9 GND (power), B10 GND (power), B15 GND (power), B16 GND (power), B19 GND (power), B20 GND (power), B30 GND (power), B40 GND (power), BA3 GND (power), BA4 GND (power), BA9 GND (power), BA10 GND (power), BA15 GND (power), BA16 GND (power), BA23 GND (power), BA33 GND (power), BA38 GND (power), BB19 GND (power), BB25 GND (power), BB30 GND (power), BB35 GND (power), BB40 GND (power), C19 GND (power), C27 GND (power), C37 GND (power), C42 GND (power), D6 GND (power), D8 GND (power), D11 GND (power), D14 GND (power), D17 GND (power), D24 GND (power), D34 GND (power), E4 GND (power), E11 GND (power), E16 GND (power), E21 GND (power), E31 GND (power), E41 GND (power), F2 GND (power), F8 GND (power), F18 GND (power), F28 GND (power), F38 GND (power), G2 GND (power), G5 GND (power), G15 GND (power), G25 GND (power), G35 GND (power), H4 GND (power), H12 GND (power), H22 GND (power), H32 GND (power), H42 GND (power), J4 GND (power), J9 GND (power), J19 GND (power), J24 GND (power), J29 GND (power), J39 GND (power), K6 GND (power), K11 GND (power), K16 GND (power), K21 GND (power), K26 GND (power), K31 GND (power), K36 GND (power), L4 GND (power), L13 GND (power), L18 GND (power), L23 GND (power), L28 GND (power), L33 GND (power), M2 GND (power), M5 GND (power), M10 GND (power), M15 GND (power), M20 GND (power), M25 GND (power), M30 GND (power), M35 GND (power), M40 GND (power), N2 GND (power), N7 GND (power), N12 GND (power), N17 GND (power), N27 GND (power), N32 GND (power), N37 GND (power), N42 GND (power), P4 GND (power), P14 GND (power), P16 GND (power), P19 GND (power), P22 GND (power), P24 GND (power), P29 GND (power), P34 GND (power), R11 GND (power), R13 GND (power), R17 GND (power), R19 GND (power), R21 GND (power), R23 GND (power), R25 GND (power), R27 GND (power), R31 GND (power), R41 GND (power), T8 GND (power), T12 GND (power), T16 GND (power), T18 GND (power), T20 GND (power), T22 GND (power), T24 GND (power), T26 GND (power), T28 GND (power), T33 GND (power), T38 GND (power), U4 GND (power), U5 GND (power), U13 GND (power), U15 GND (power), U17 GND (power), U19 GND (power), U21 GND (power), U23 GND (power), U25 GND (power), U27 GND (power), U29 GND (power), U35 GND (power), V2 GND (power), V12 GND (power), V14 GND (power), V16 GND (power), V18 GND (power), V20 GND (power), V22 GND (power), V24 GND (power), V26 GND (power), V28 GND (power), V30 GND (power), V31 RSVD, V32 GND (power), V42 GND (power), W2 GND (power), W9 GND (power), W13 GND (power), W15 GND (power), W17 GND (power), W19 GND (power), W21 GND (power), W23 GND (power), W25 GND (power), W27 GND (power), W29 GND (power), W31 GND (power), W34 GND (power), W39 GND (power), Y4 GND (power), Y6 GND (power), Y11 GND (power), Y12 GND (power), Y14 GND (power), Y16 GND (power), Y18 GND (power), Y20 GND (power), Y24 GND (power), Y26 GND (power), Y28 GND (power), Y30 GND (power), Y36 GND (power)
part X pins: A8 NC, A9 NC, A10 NC, A11 NC, A14 NC, A15 NC, A16 NC, A17 NC, A20 NC, A21 NC, A22 NC, A24 NC, A25 NC, A26 NC, A27 NC, A29 NC, A30 NC, A31 NC, A32 NC, A34 NC, A35 NC, A36 NC, A37 NC, A39 NC, A40 NC, A41 NC, AJ21 NC, AJ22 NC, AK20 NC, AK22 NC, AK23 NC, AL11 NC, AL12 NC, AL20 NC, AL21 NC, AL22 NC, AM11 NC, AM12 NC, AM21 NC, AM22 NC, AM23 NC, AN10 NC, AN11 NC, AN21 NC, AN23 NC, AP10 NC, AP11 NC, AP12 NC, AP20 NC, AP21 NC, AP22 NC, AP23 NC, AR9 NC, AR10 NC, AR12 NC, AR13 NC, AR20 NC, AR22 NC, AR23 NC, AR24 NC, AR25 NC, AT9 NC, AT10 NC, AT11 NC, AT12 NC, AT20 NC, AT21 NC, AT22 NC, AT24 NC, AT25 NC, AU7 NC, AU8 NC, AU9 NC, AU11 NC, AU12 NC, AU13 NC, AU14 NC, AU16 NC, AU17 NC, AU18 NC, AU19 NC, AU21 NC, AU22 NC, AU23 NC, AU24 NC, AU26 NC, AU27 NC, AV8 NC, AV9 NC, AV10 NC, AV11 NC, AV13 NC, AV14 NC, AV15 NC, AV16 NC, AV18 NC, AV19 NC, AV20 NC, AV21 NC, AV23 NC, AV24 NC, AV25 NC, AV26 NC, AV28 NC, AV29 NC, AV30 NC, AW7 NC, AW9 NC, AW10 NC, AW12 NC, AW13 NC, AW15 NC, AW16 NC, AW18 NC, AW20 NC, AW21 NC, AW22 NC, AW23 NC, AW25 NC, AW26 NC, AW27 NC, AW28 NC, AW30 NC, AW31 NC, AW32 NC, AW33 NC, AW35 NC, AW36 NC, AW37 NC, AW38 NC, AW40 NC, AW41 NC, AW42 NC, AY7 NC, AY8 NC, AY9 NC, AY10 NC, AY11 NC, AY12 NC, AY13 NC, AY14 NC, AY15 NC, AY16 NC, AY17 NC, AY18 NC, AY19 NC, AY20 NC, AY22 NC, AY23 NC, AY24 NC, AY25 NC, AY27 NC, AY28 NC, AY29 NC, AY30 NC, AY32 NC, AY33 NC, AY34 NC, AY35 NC, AY37 NC, AY38 NC, AY39 NC, AY40 NC, AY42 NC, B7 NC, B8 NC, B11 NC, B12 NC, B13 NC, B14 NC, B17 NC, B18 NC, B21 NC, B22 NC, B23 NC, B24 NC, B26 NC, B27 NC, B28 NC, B29 NC, B31 NC, B32 NC, B33 NC, B34 NC, B36 NC, B37 NC, B38 NC, B39 NC, B41 NC, B42 NC, BA7 NC, BA8 NC, BA11 NC, BA12 NC, BA13 NC, BA14 NC, BA17 NC, BA18 NC, BA19 NC, BA20 NC, BA21 NC, BA22 NC, BA24 NC, BA25 NC, BA26 NC, BA27 NC, BA29 NC, BA30 NC, BA31 NC, BA32 NC, BA34 NC, BA35 NC, BA36 NC, BA37 NC, BA39 NC, BA40 NC, BA41 NC, BA42 NC, BB8 NC, BB9 NC, BB10 NC, BB11 NC, BB14 NC, BB15 NC, BB16 NC, BB17 NC, BB20 NC, BB21 NC, BB22 NC, BB23 NC, BB24 NC, BB26 NC, BB27 NC, BB28 NC, BB29 NC, BB31 NC, BB32 NC, BB33 NC, BB34 NC, BB36 NC, BB37 NC, BB38 NC, BB39 NC, BB41 NC, C7 NC, C8 NC, C9 NC, C10 NC, C11 NC, C12 NC, C13 NC, C14 NC, C15 NC, C16 NC, C17 NC, C18 NC, C20 NC, C21 NC, C23 NC, C24 NC, C25 NC, C26 NC, C28 NC, C29 NC, C30 NC, C31 NC, C33 NC, C34 NC, C35 NC, C36 NC, C38 NC, C39 NC, C40 NC, C41 NC, D9 NC, D10 NC, D15 NC, D16 NC, D18 NC, D20 NC, D21 NC, D22 NC, D23 NC, D25 NC, D26 NC, D27 NC, D28 NC, D30 NC, D31 NC, D32 NC, D33 NC, D35 NC, D36 NC, D38 NC, D40 NC, D41 NC, D42 NC, E19 NC, E20 NC, E22 NC, E23 NC, E24 NC, E25 NC, E27 NC, E28 NC, E29 NC, E30 NC, E42 NC, F19 NC, F20 NC, F21 NC, F22 NC, F24 NC, F25 NC, F26 NC, F30 NC, G19 NC, G21 NC, G22 NC, G23 NC, G24 NC, G26 NC, H19 NC, H20 NC, H21 NC, H23 NC, H24 NC, H25 NC, J20 NC, J21 NC, J22 NC, J23 NC, K20 NC, K22 NC, K23 NC, L21 NC, L22 NC, M21 NC, M22 NC, M23 NC, N21 NC, N22 NC, N23 NC, N24 NC, Y5 NC
part A text: BANK 1
part B text: BANK 2
part C text: BANK 3
part D text: BANK 4
part E text: BANK 5
part F text: BANK 6
part G text: BANK 11
part H text: BANK 12
part I text: BANK 13
part J text: BANK 15
part K text: BANK 17
part L text: BANK 18
part M text: BANK 19
part N text: BANK 20
part O text: BANK 21
part P text: BANK 23
part Q text: BANK 24
part R text: BANK 25
part S text: BANK 26

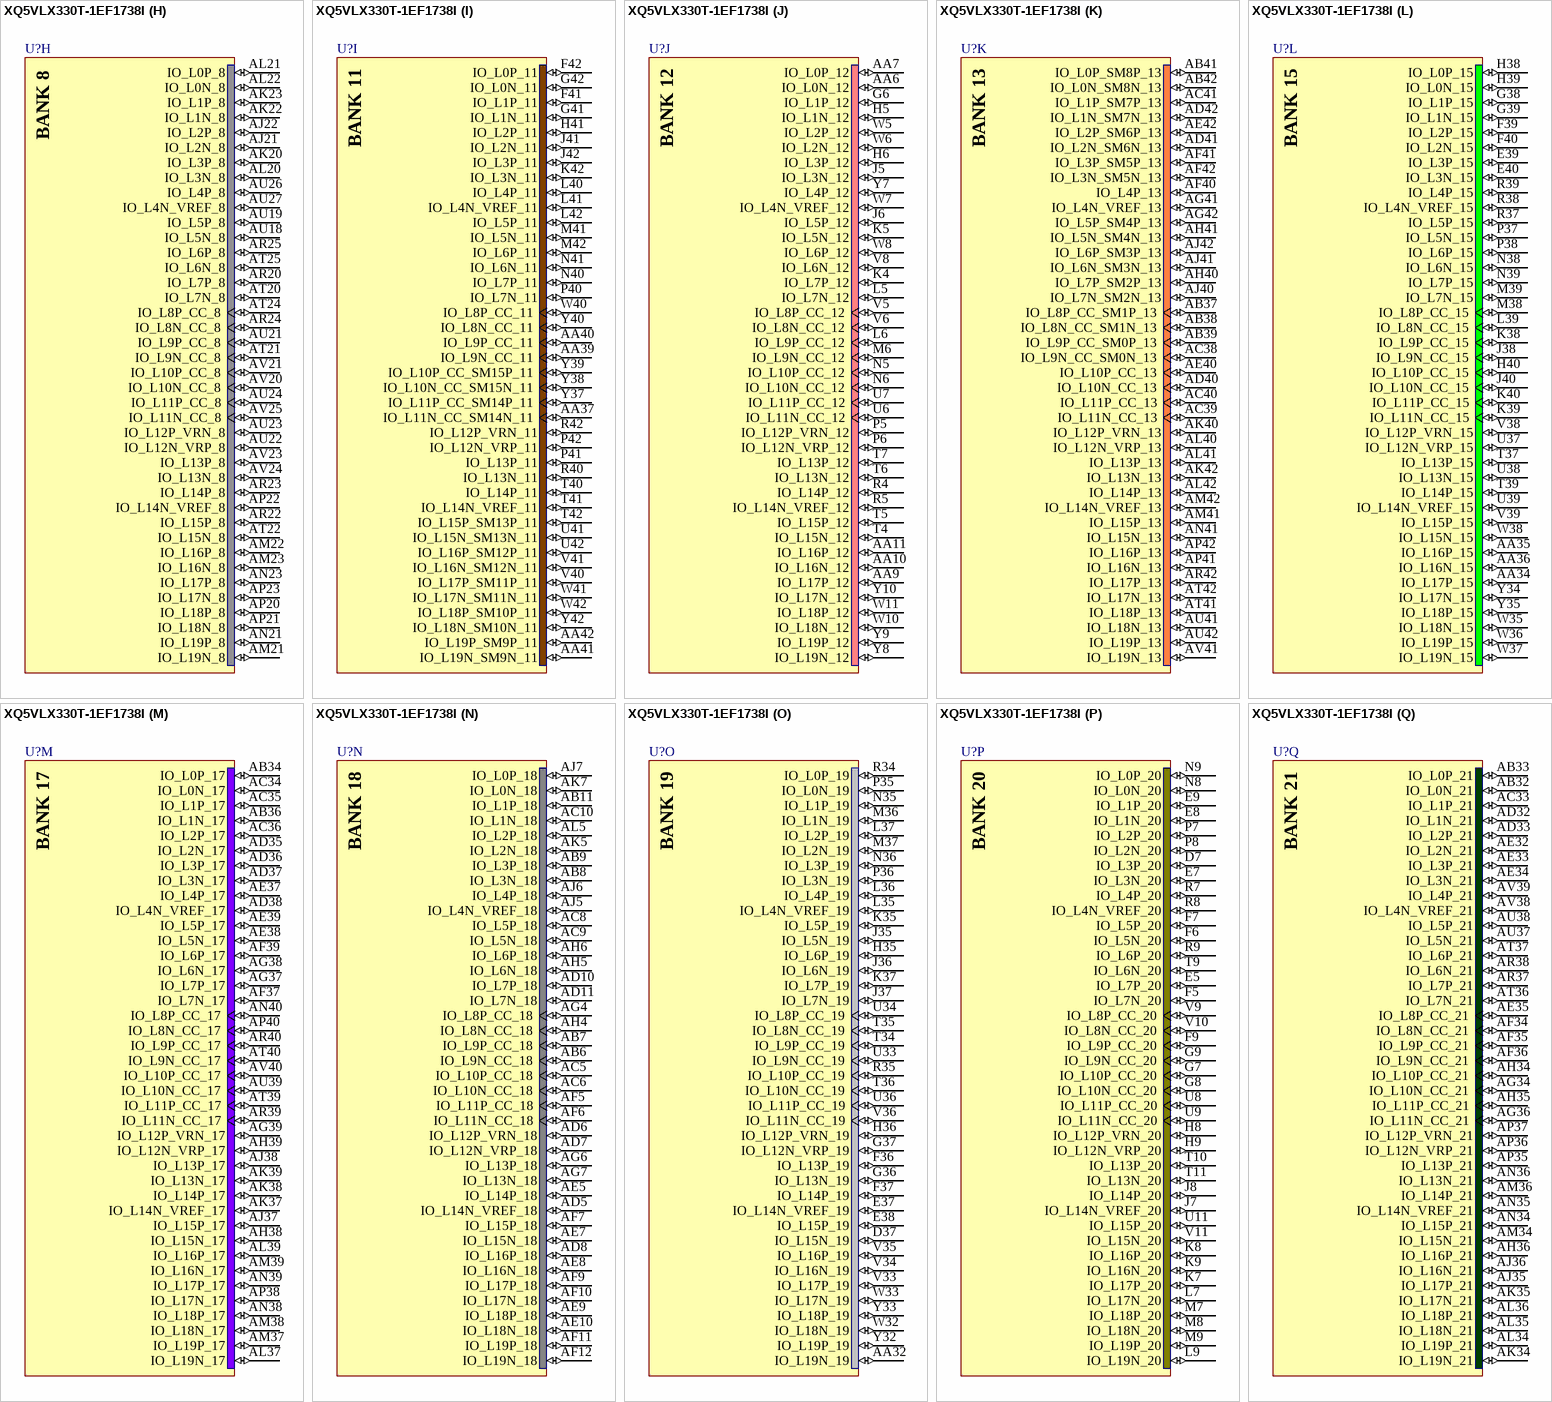
[diagram p131: symbol XQ5VLX330T-1EF1738I]

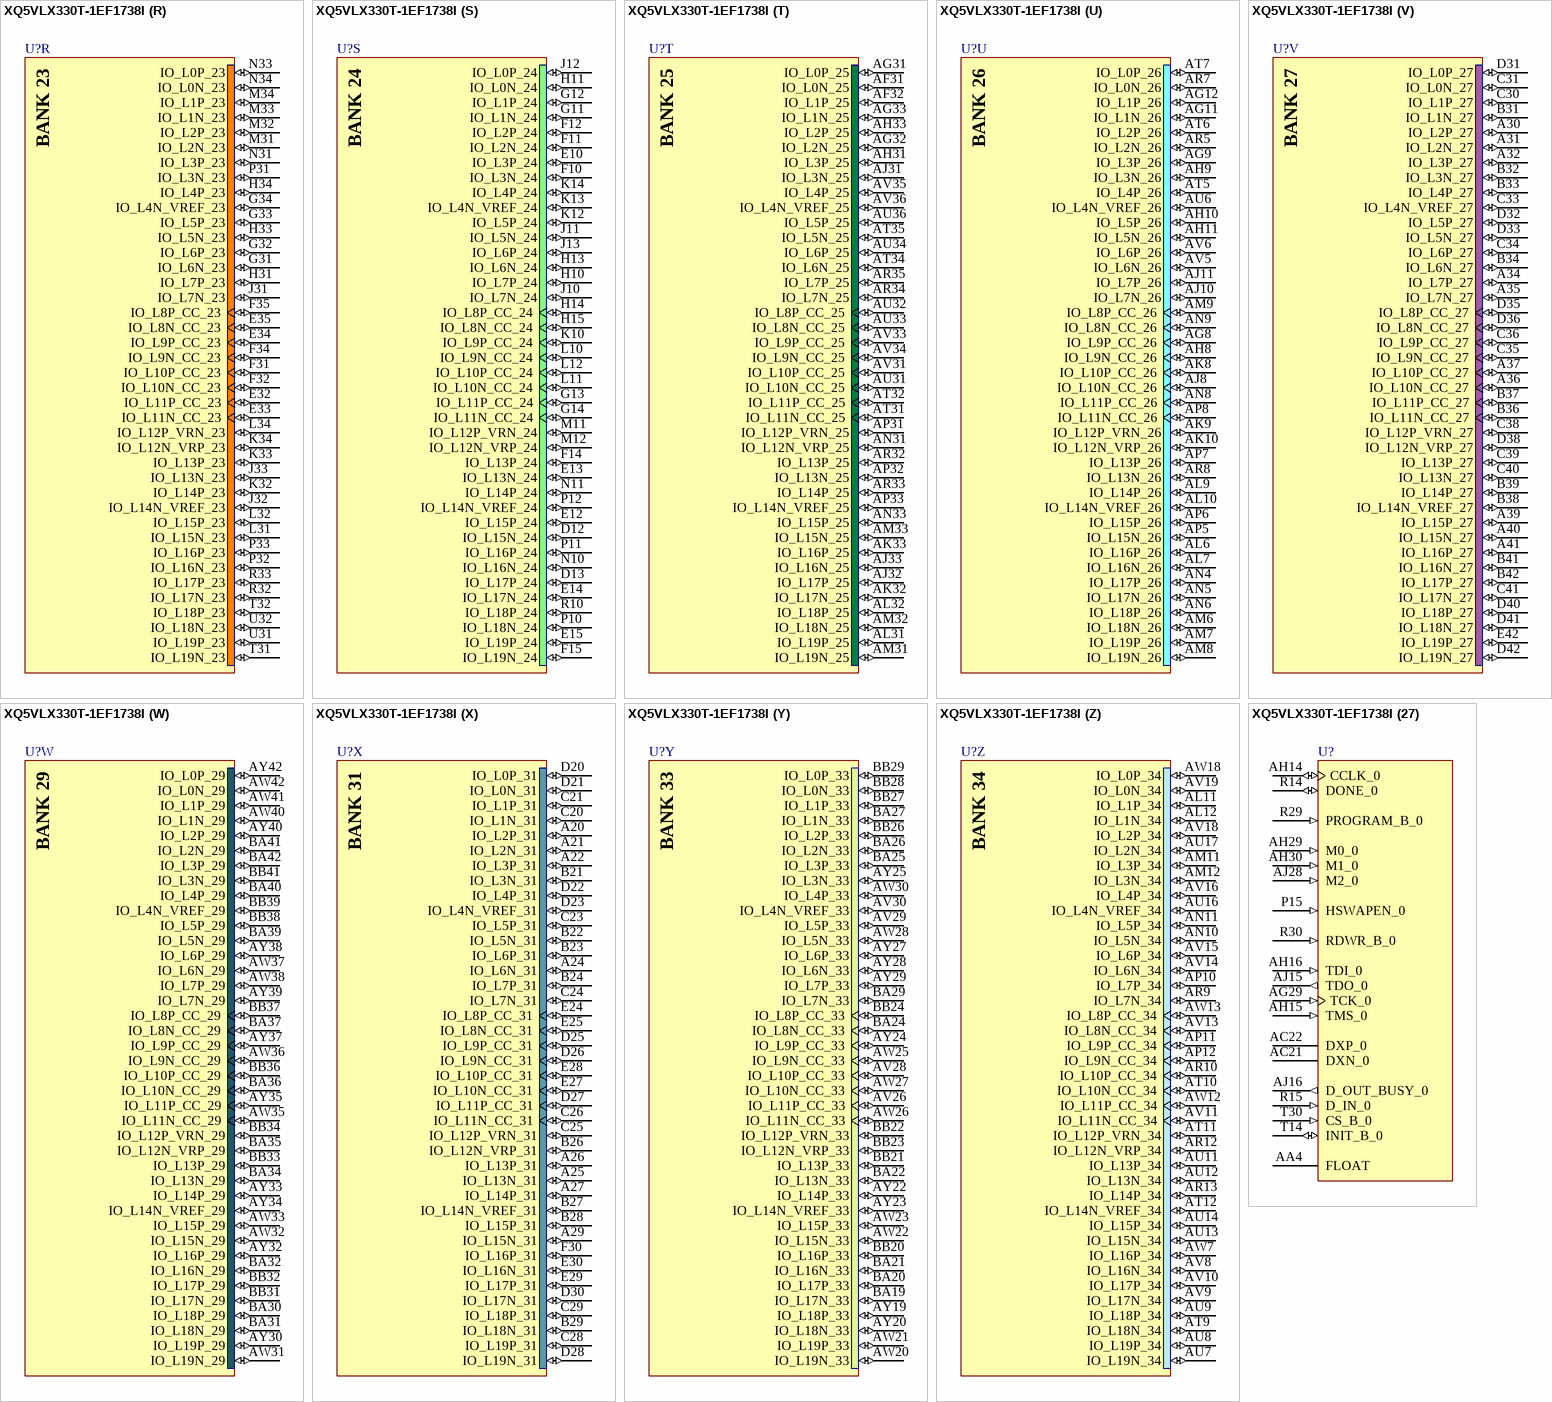
[diagram p132: symbol XQ5VLX330T-1EF1738I]

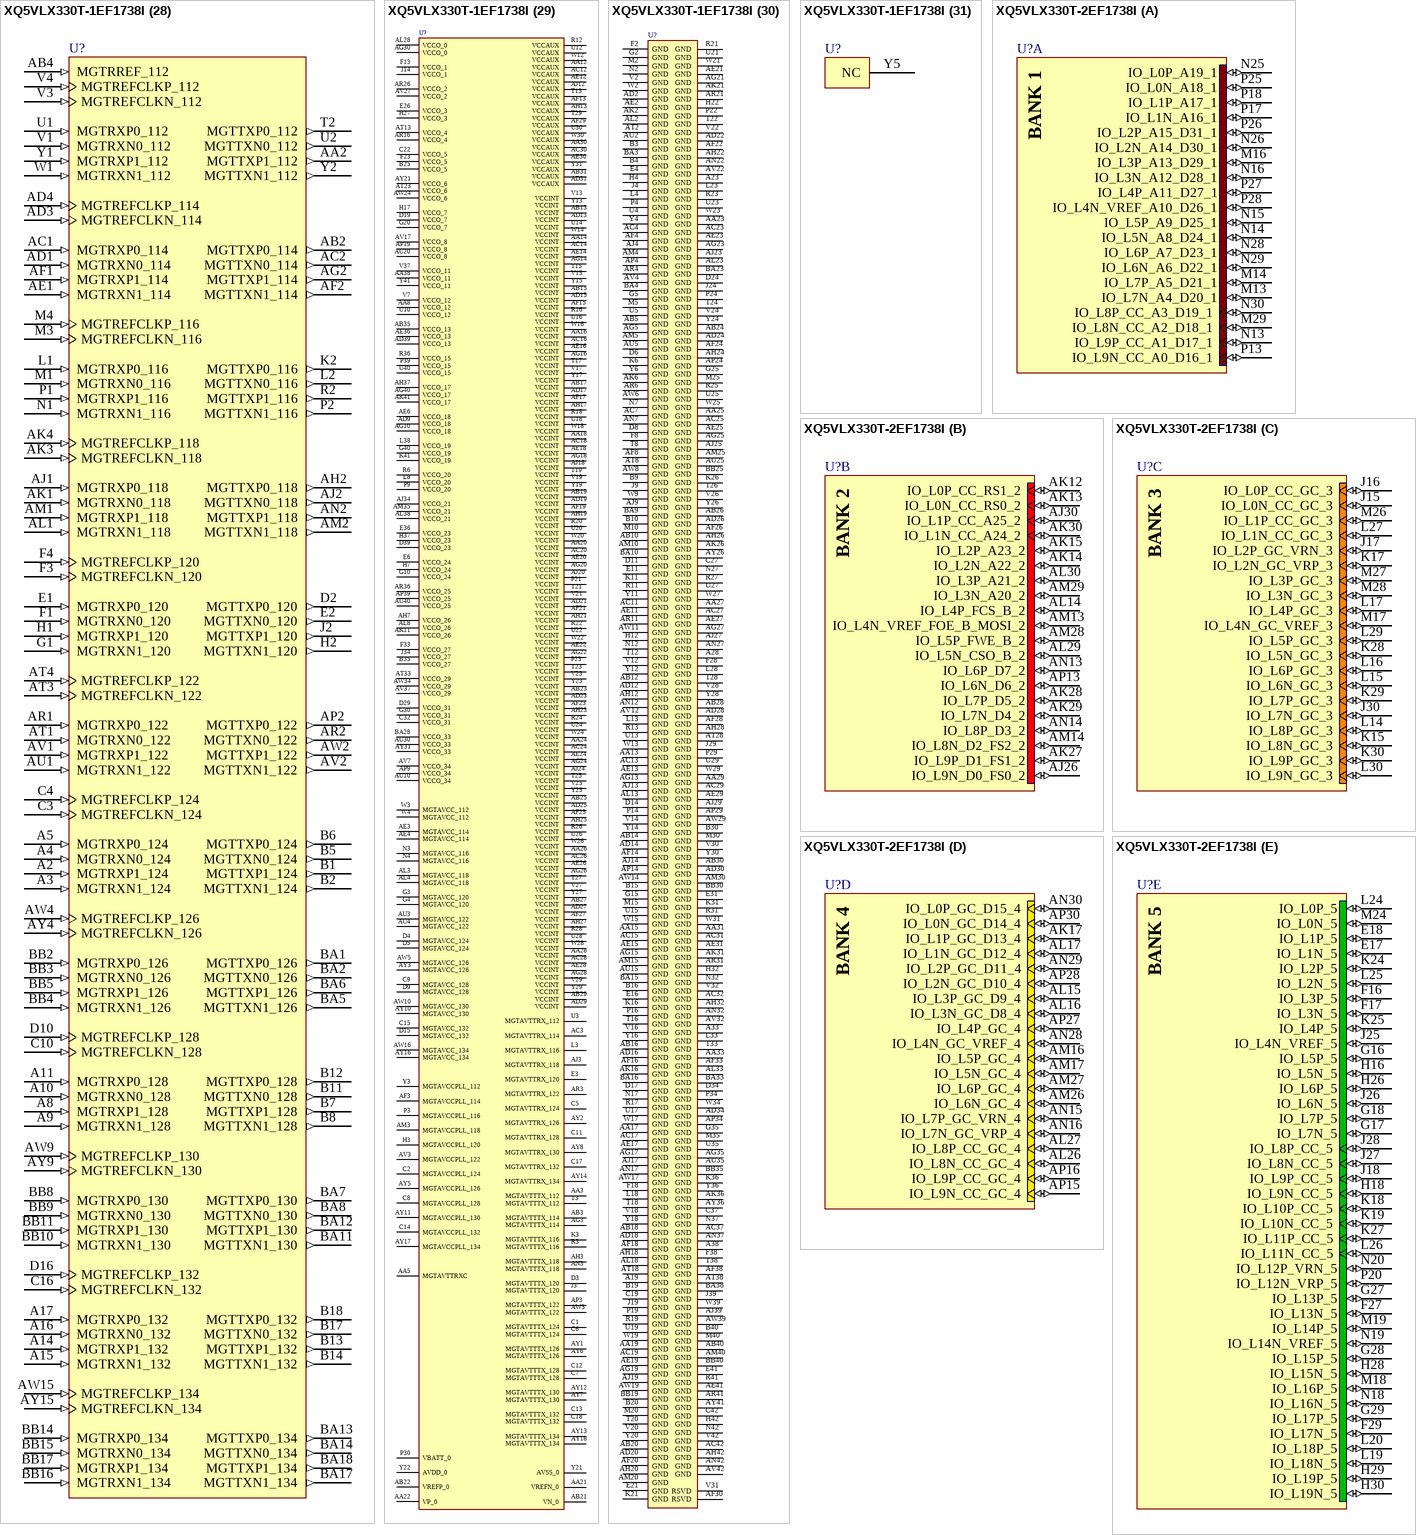
[diagram p133: symbols XQ5VLX330T-1EF1738I to XQ5VLX330T-2EF1738I]